# EAGLE library part 740-116/000-023 (library con-wago_740)
Stand: 01.01.2014. Die jeweils aktuellen Daten zu diesem Artikel finden Sie in unserem Produktkatalog, den Sie unter www.wago.com einsehen können. As of: 01/01/2014. Please find the newest data for this article in our product catalogue, which can be viewed under www.wago.com.
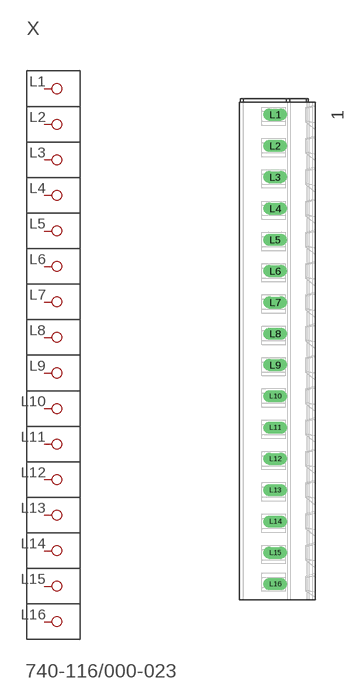
[diagram p38: symbol with the pads of P-740-116; footprint P-740-116]

Designator prefix X

## 740-116/000-023  [P-740-116]
L1  P1
L2  P2
L3  P3
L4  P4
L5  P5
L6  P6
L7  P7
L8  P8
L9  P9
L10  P10
L11  P11
L12  P12
L13  P13
L14  P14
L15  P15
L16  P16

## Footprint P-740-116 (pad centres in mm)
drill 1.3 long: L1 -0.35,37.5; L2 -0.35,32.5; L3 -0.35,27.5; L4 -0.35,22.5; L5 -0.35,17.5; L6 -0.35,12.5; L7 -0.35,7.5; L8 -0.35,2.5; L9 -0.35,-2.5; L10 -0.35,-7.5; L11 -0.35,-12.5; L12 -0.35,-17.5; L13 -0.35,-22.5; L14 -0.35,-27.5; L15 -0.35,-32.5; L16 -0.35,-37.5